# Altium footprint library Sensors.PcbLib: 2 footprints
Each footprint in its own frame and in the unit in brackets; x right, y up, seen from the top. Pads: shape width x height; smd on the part's side, far side on the other; paste and mask are expansions set on the pad; w line width, h text height; cw(c..) or ccw(c..) is an arc to the next point about the centre after c.
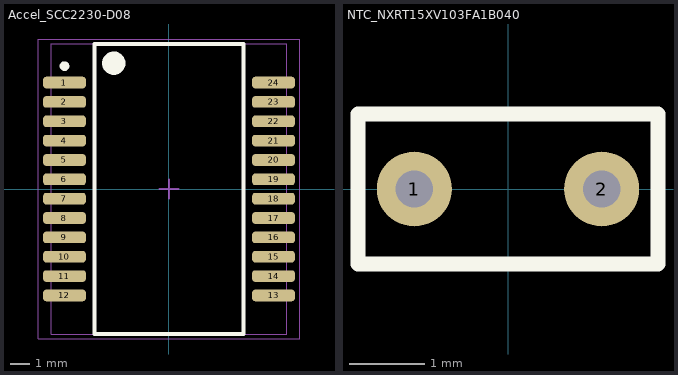
[diagram p0: the footprints below, top view; thin cyan lines are the x and y axes]

## Accel_SCC2230-D08 [mm] "SOP, 24-Leads, Body 15,00x8,50mm, Pitch 1,00mm, IPC Medium Density"
height 4.35
pads (24):
  rrect50% 2.2x0.6 smd: 1(-5.4,5.5) 2(-5.4,4.5) 3(-5.4,3.5) 4(-5.4,2.5) 5(-5.4,1.5) 6(-5.4,0.5) 7(-5.4,-0.5) 8(-5.4,-1.5) 9(-5.4,-2.5) 10(-5.4,-3.5) 11(-5.4,-4.5) 12(-5.4,-5.5) 13(5.4,-5.5) 14(5.4,-4.5) 15(5.4,-3.5) 16(5.4,-2.5) 17(5.4,-1.5) 18(5.4,-0.5) 19(5.4,0.5) 20(5.4,1.5) 21(5.4,2.5) 22(5.4,3.5) 23(5.4,4.5) 24(5.4,5.5)
Top Overlay:
  circle w0.6: c-2.85,6.5 r0.3
  circle w0.25: c-5.4,6.35 r0.125
  lines w0.2: -3.85,-7.5 3.85,-7.5 3.85,7.5 -3.85,7.5 -3.85,-7.5
Top Component Outline:
  lines w0.05: -6.75,-7.75 6.75,-7.75 6.75,7.75 -6.75,7.75 -6.75,-7.75 ; -6.096,-7.493 6.096,-7.493 6.096,7.493 -6.096,7.493 -6.096,-7.493
  lines w0.1: -0.5,0 0.5,0 ; 0,-0.5 0,0.5
  text "'.Designator'" at -4.091,-0.81 h0.7
3D body "SCC2230-D08.stp": height 4.36, standoff 0.01, extent -6.05,-7.5 6.05,7.5

## NTC_NXRT15XV103FA1B040 [mm]
pads (2):
  round 1 hole 0.5: 1(-1.25,0) 2(1.25,0)
Top Overlay:
  lines w0.2: -2,-1 -2,1 2,1 2,-1 -2,-1
Top Component Outline:
  lines w0.05: -2,-1 -2,1 2,1 2,-1 -2,-1
  text "'.Designator'" at -1.8,-2.167 h0.7